# Altium integrated library ZRE200GE.IntLib: 1 symbol
Pins are listed as number, name and electrical type; pins without a type are passive.

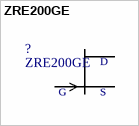
[diagram p0: symbol ZRE200GE]

## ZRE200GE
designator ?
Zmotion Pir Sensor Dual Element; MF: Zilog; MP: ZRE200GE; SnapEDA_Link: https://www.snapeda.com/parts/ZRE200GE/Zilog/view-part/?ref=snap; Digi-Key_Part_Number: 269-4955-ND; Digi-Key_Purchase_URL: https://www.digikey.com/product-detail/en/zilog/ZRE200GE/269-4955-ND/5147335?utm_source=snapeda&utm_medium=aggregator&utm_campaign=symbol; Package: TO-5-3 Zilog; Value: *
footprint TO5
pins: 1 D, 2 S, 3 G